# Altium footprint library BOURNS_3362P-1-103LF.PcbLib: 1 footprints
Each footprint in its own frame and in the unit in brackets; x right, y up, seen from the top. Pads: shape width x height; smd on the part's side, far side on the other; paste and mask are expansions set on the pad; w line width, h text height; cw(c..) or ccw(c..) is an arc to the next point about the centre after c.
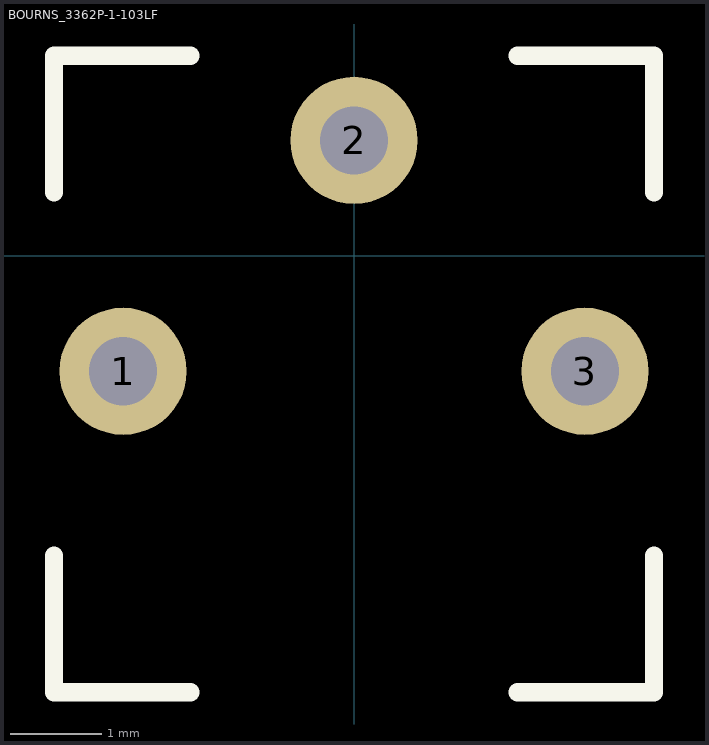
[diagram p0: the footprint, top view; thin cyan lines are the x and y axes]

## BOURNS_3362P-1-103LF [mm] "Bourns Potentiometer"
pads (3):
  round 1.4 hole 0.75 unplated: 1(-2.54,-1.27) 2(0,1.27) 3(2.54,-1.27)
Top Overlay:
  lines w0.2: -3.3,-3.3 -3.3,-4.8 -1.8,-4.8 ; -3.3,0.7 -3.3,2.2 -1.8,2.2 ; 1.8,-4.8 3.3,-4.8 3.3,-3.3 ; 1.8,2.2 3.3,2.2 3.3,0.7
3D body "BOURNS_3362P001XXX0A.stp": height 4.7, standoff -5.46, extent -3.302,-4.81 3.302,2.175